# Altium schematic symbol library MCU_NXP_MAC7100.SchLib: 2 symbols
Pins are listed as number, name and electrical type; pins without a type are passive.

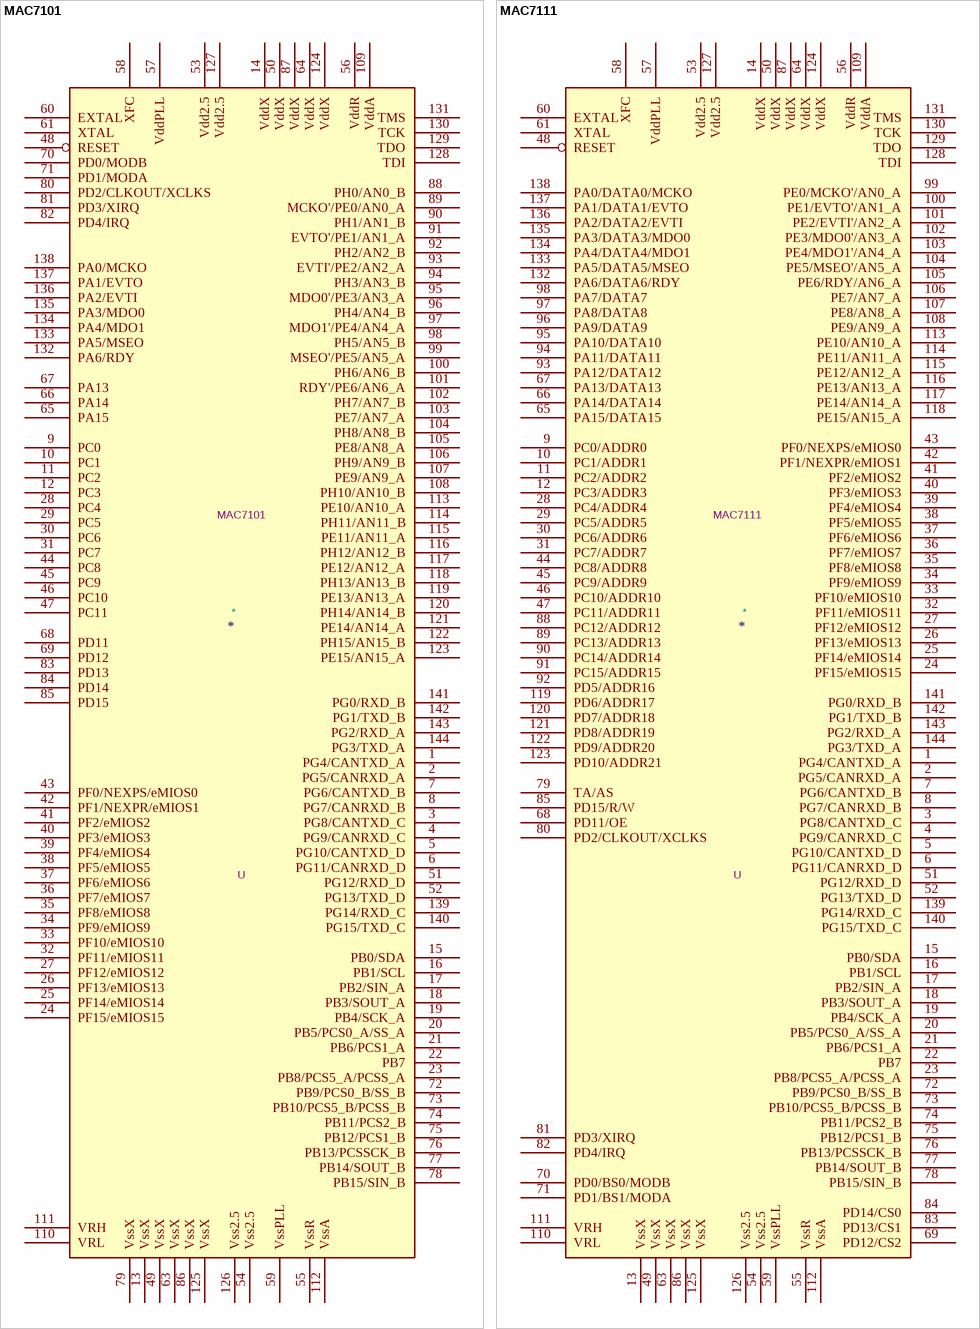
[diagram p0: symbols MAC7101 to MAC7111]

## MAC7101
designator *  value MAC7101  Reference: U
Automotive ARM7TDMI-S-based Microcontroller, LQFP-144; ki_keywords: ARM7TDMI-S MCU; ki_fp_filters: LQFP*20x20mm*P0.5mm*; Footprint: Package_QFP:LQFP-144_20x20mm_P0.5mm; Datasheet: https://www.nxp.com/docs/en/data-sheet/MAC7100EC.pdf; Description_: Automotive ARM7TDMI-S-based Microcontroller, LQFP-144
pins: 1 PG4/CANTXD_A, 2 PG5/CANRXD_A, 3 PG8/CANTXD_C, 4 PG9/CANRXD_C, 5 PG10/CANTXD_D, 6 PG11/CANRXD_D, 7 PG6/CANTXD_B, 8 PG7/CANRXD_B, 9 PC0, 10 PC1, 11 PC2, 12 PC3, 13 VssX, 14 VddX, 15 PB0/SDA, 16 PB1/SCL, 17 PB2/SIN_A, 18 PB3/SOUT_A, 19 PB4/SCK_A, 20 PB5/PCS0_A/SS_A, 21 PB6/PCS1_A, 22 PB7, 23 PB8/PCS5_A/PCSS_A, 24 PF15/eMIOS15, 25 PF14/eMIOS14, 26 PF13/eMIOS13, 27 PF12/eMIOS12, 28 PC4, 29 PC5, 30 PC6, 31 PC7, 32 PF11/eMIOS11, 33 PF10/eMIOS10, 34 PF9/eMIOS9, 35 PF8/eMIOS8, 36 PF7/eMIOS7, 37 PF6/eMIOS6, 38 PF5/eMIOS5, 39 PF4/eMIOS4, 40 PF3/eMIOS3, 41 PF2/eMIOS2, 42 PF1/NEXPR/eMIOS1, 43 PF0/NEXPS/eMIOS0, 44 PC8, 45 PC9, 46 PC10, 47 PC11, 48 RESET, 49 VssX, 50 VddX, 51 PG12/RXD_D, 52 PG13/TXD_D, 53 Vdd2.5, 54 Vss2.5, 55 VssR, 56 VddR, 57 VddPLL, 58 XFC, 59 VssPLL, 60 EXTAL, 61 XTAL, 63 VssX, 64 VddX, 65 PA15, 66 PA14, 67 PA13, 68 PD11, 69 PD12, 70 PD0/MODB, 71 PD1/MODA, 72 PB9/PCS0_B/SS_B, 73 PB10/PCS5_B/PCSS_B, 74 PB11/PCS2_B, 75 PB12/PCS1_B, 76 PB13/PCSSCK_B, 77 PB14/SOUT_B, 78 PB15/SIN_B, 79 VssX, 80 PD2/CLKOUT/XCLKS, 81 PD3/XIRQ, 82 PD4/IRQ, 83 PD13, 84 PD14, 85 PD15, 86 VssX, 87 VddX, 88 PH0/AN0_B, 89 MCKO'/PE0/AN0_A, 90 PH1/AN1_B, 91 EVTO'/PE1/AN1_A, 92 PH2/AN2_B, 93 EVTI'/PE2/AN2_A, 94 PH3/AN3_B, 95 MDO0'/PE3/AN3_A, 96 PH4/AN4_B, 97 MDO1'/PE4/AN4_A, 98 PH5/AN5_B, 99 MSEO'/PE5/AN5_A, 100 PH6/AN6_B, 101 RDY'/PE6/AN6_A, 102 PH7/AN7_B, 103 PE7/AN7_A, 104 PH8/AN8_B, 105 PE8/AN8_A, 106 PH9/AN9_B, 107 PE9/AN9_A, 108 PH10/AN10_B, 109 VddA, 110 VRL, 111 VRH, 112 VssA, 113 PE10/AN10_A, 114 PH11/AN11_B, 115 PE11/AN11_A, 116 PH12/AN12_B, 117 PE12/AN12_A, 118 PH13/AN13_B, 119 PE13/AN13_A, 120 PH14/AN14_B, 121 PE14/AN14_A, 122 PH15/AN15_B, 123 PE15/AN15_A, 124 VddX, 125 VssX, 126 Vss2.5, 127 Vdd2.5, 128 TDI, 129 TDO, 130 TCK, 131 TMS, 132 PA6/RDY, 133 PA5/MSEO, 134 PA4/MDO1, 135 PA3/MDO0, 136 PA2/EVTI, 137 PA1/EVTO, 138 PA0/MCKO, 139 PG14/RXD_C, 140 PG15/TXD_C, 141 PG0/RXD_B, 142 PG1/TXD_B, 143 PG2/RXD_A, 144 PG3/TXD_A

## MAC7111
designator *  value MAC7111  Reference: U
Automotive ARM7TDMI-S-based Microcontroller, LQFP-144; ki_keywords: ARM7TDMI-S MCU; ki_fp_filters: LQFP*20x20mm*P0.5mm*; Footprint: Package_QFP:LQFP-144_20x20mm_P0.5mm; Datasheet: https://www.nxp.com/docs/en/data-sheet/MAC7100EC.pdf; Description_: Automotive ARM7TDMI-S-based Microcontroller, LQFP-144
pins: 1 PG4/CANTXD_A, 2 PG5/CANRXD_A, 3 PG8/CANTXD_C, 4 PG9/CANRXD_C, 5 PG10/CANTXD_D, 6 PG11/CANRXD_D, 7 PG6/CANTXD_B, 8 PG7/CANRXD_B, 9 PC0/ADDR0, 10 PC1/ADDR1, 11 PC2/ADDR2, 12 PC3/ADDR3, 13 VssX, 14 VddX, 15 PB0/SDA, 16 PB1/SCL, 17 PB2/SIN_A, 18 PB3/SOUT_A, 19 PB4/SCK_A, 20 PB5/PCS0_A/SS_A, 21 PB6/PCS1_A, 22 PB7, 23 PB8/PCS5_A/PCSS_A, 24 PF15/eMIOS15, 25 PF14/eMIOS14, 26 PF13/eMIOS13, 27 PF12/eMIOS12, 28 PC4/ADDR4, 29 PC5/ADDR5, 30 PC6/ADDR6, 31 PC7/ADDR7, 32 PF11/eMIOS11, 33 PF10/eMIOS10, 34 PF9/eMIOS9, 35 PF8/eMIOS8, 36 PF7/eMIOS7, 37 PF6/eMIOS6, 38 PF5/eMIOS5, 39 PF4/eMIOS4, 40 PF3/eMIOS3, 41 PF2/eMIOS2, 42 PF1/NEXPR/eMIOS1, 43 PF0/NEXPS/eMIOS0, 44 PC8/ADDR8, 45 PC9/ADDR9, 46 PC10/ADDR10, 47 PC11/ADDR11, 48 RESET, 49 VssX, 50 VddX, 51 PG12/RXD_D, 52 PG13/TXD_D, 53 Vdd2.5, 54 Vss2.5, 55 VssR, 56 VddR, 57 VddPLL, 58 XFC, 59 VssPLL, 60 EXTAL, 61 XTAL, 63 VssX, 64 VddX, 65 PA15/DATA15, 66 PA14/DATA14, 67 PA13/DATA13, 68 PD11/OE, 69 PD12/CS2, 70 PD0/BS0/MODB, 71 PD1/BS1/MODA, 72 PB9/PCS0_B/SS_B, 73 PB10/PCS5_B/PCSS_B, 74 PB11/PCS2_B, 75 PB12/PCS1_B, 76 PB13/PCSSCK_B, 77 PB14/SOUT_B, 78 PB15/SIN_B, 79 TA/AS, 80 PD2/CLKOUT/XCLKS, 81 PD3/XIRQ, 82 PD4/IRQ, 83 PD13/CS1, 84 PD14/CS0, 85 PD15/R/W, 86 VssX, 87 VddX, 88 PC12/ADDR12, 89 PC13/ADDR13, 90 PC14/ADDR14, 91 PC15/ADDR15, 92 PD5/ADDR16, 93 PA12/DATA12, 94 PA11/DATA11, 95 PA10/DATA10, 96 PA9/DATA9, 97 PA8/DATA8, 98 PA7/DATA7, 99 PE0/MCKO'/AN0_A, 100 PE1/EVTO'/AN1_A, 101 PE2/EVTI'/AN2_A, 102 PE3/MDO0'/AN3_A, 103 PE4/MDO1'/AN4_A, 104 PE5/MSEO'/AN5_A, 105 PE6/RDY/AN6_A, 106 PE7/AN7_A, 107 PE8/AN8_A, 108 PE9/AN9_A, 109 VddA, 110 VRL, 111 VRH, 112 VssA, 113 PE10/AN10_A, 114 PE11/AN11_A, 115 PE12/AN12_A, 116 PE13/AN13_A, 117 PE14/AN14_A, 118 PE15/AN15_A, 119 PD6/ADDR17, 120 PD7/ADDR18, 121 PD8/ADDR19, 122 PD9/ADDR20, 123 PD10/ADDR21, 124 VddX, 125 VssX, 126 Vss2.5, 127 Vdd2.5, 128 TDI, 129 TDO, 130 TCK, 131 TMS, 132 PA6/DATA6/RDY, 133 PA5/DATA5/MSEO, 134 PA4/DATA4/MDO1, 135 PA3/DATA3/MDO0, 136 PA2/DATA2/EVTI, 137 PA1/DATA1/EVTO, 138 PA0/DATA0/MCKO, 139 PG14/RXD_C, 140 PG15/TXD_C, 141 PG0/RXD_B, 142 PG1/TXD_B, 143 PG2/RXD_A, 144 PG3/TXD_A